# Altium footprint library Chip LED.PcbLib: 25 footprints (part 1 of 2)
Each footprint in its own frame and in the unit in brackets; x right, y up, seen from the top. Pads: shape width x height; smd on the part's side, far side on the other; paste and mask are expansions set on the pad; w line width, h text height; cw(c..) or ccw(c..) is an arc to the next point about the centre after c.
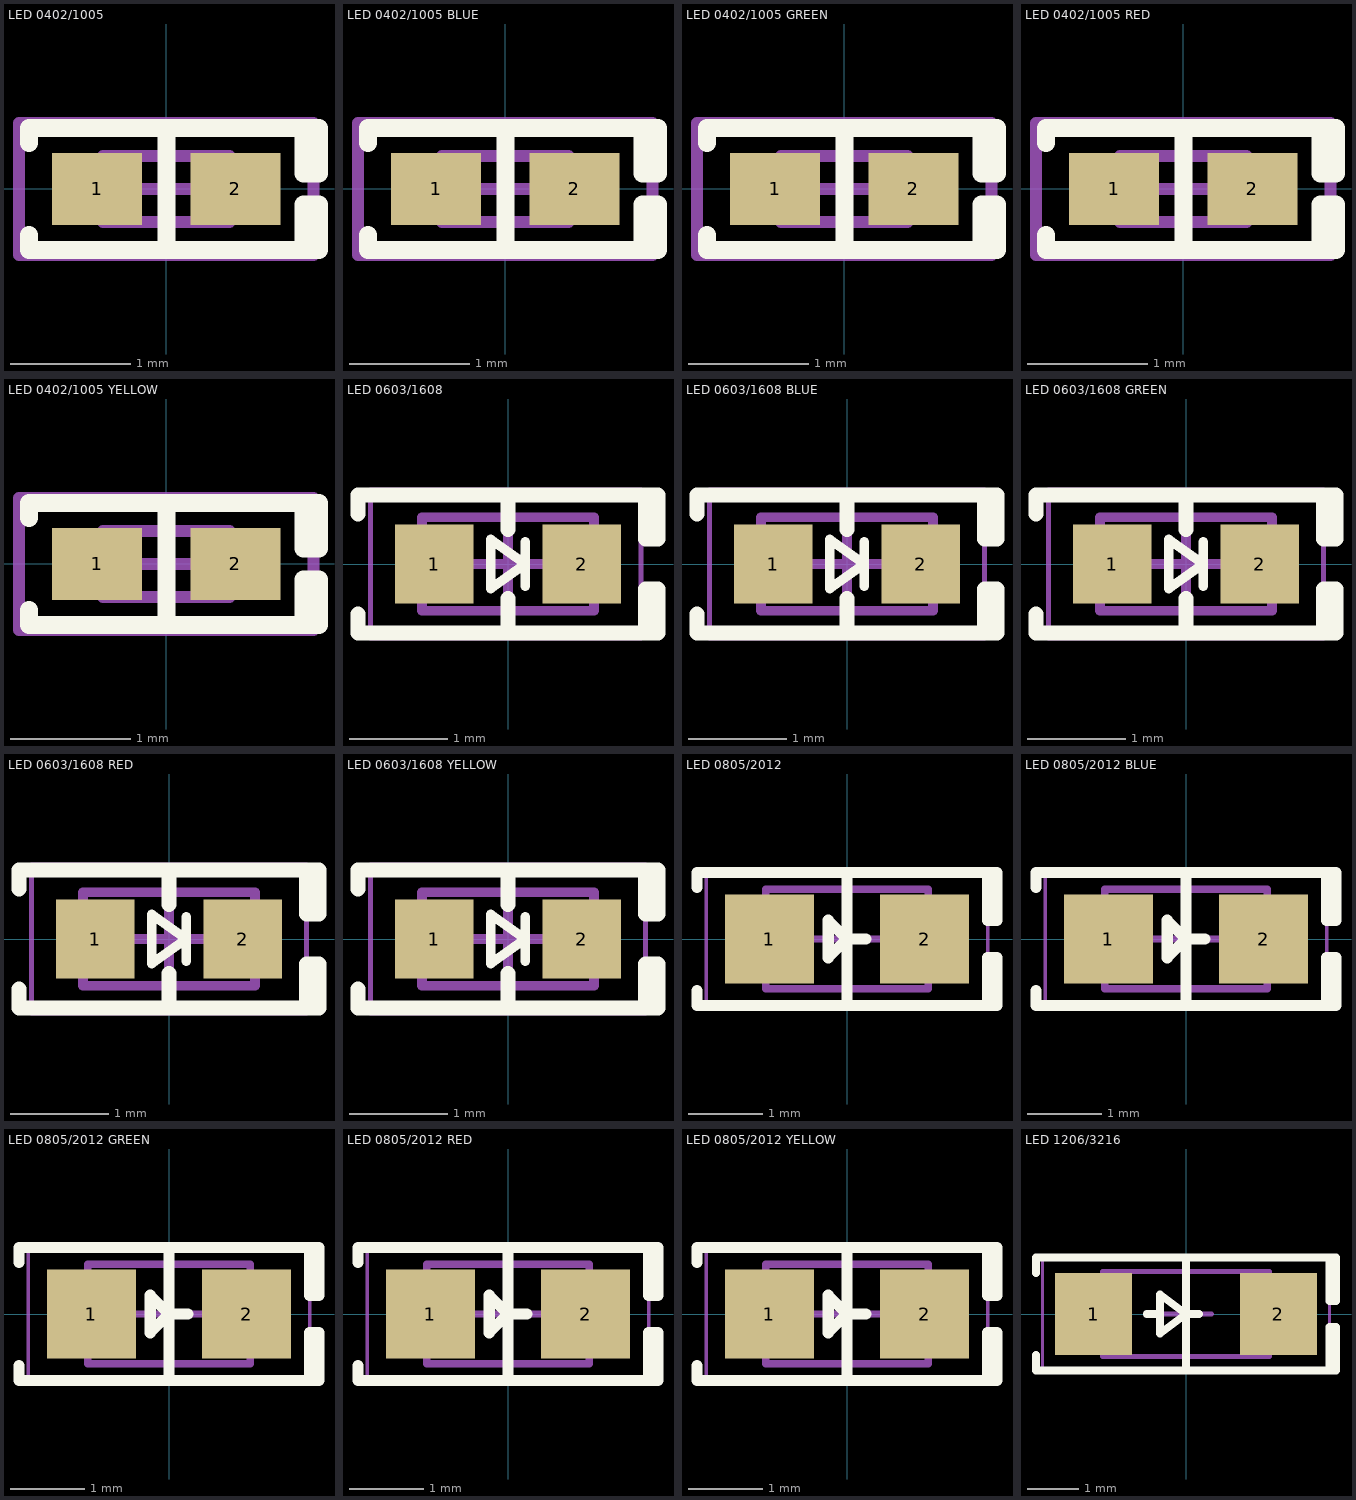
[diagram p0: the footprints below, top view; thin cyan lines are the x and y axes]

## LED 0402/1005 [mm] "Chip Diode, 2-Leads, Body 1.00x0.50mm, IPC Medium Density"
height 0.25
pads (2):
  rect 0.75x0.6 smd: 1(-0.575,0) 2(0.575,0)
Top Overlay:
  lines w0.15: -1.143,-0.381 -1.143,-0.508 1.143,-0.508 ; -1.143,0.381 -1.143,0.508 1.143,0.508 ; 0,-0.508 0,0.508 ; 1.143,-0.508 1.27,-0.508 1.27,-0.127 1.143,-0.127 1.143,-0.508 ; 1.143,0.508 1.27,0.508 1.27,0.127 1.143,0.127 1.143,0.508
Mechanical 13:
  lines w0.1: -0.525,-0.275 -0.525,0.275 0.525,0.275 0.525,-0.275 -0.525,-0.275
Mechanical 15:
  lines w0.1: -0.275,0 0.275,0 ; 0,-0.275 0,0.275 ; -1.225,-0.55 -1.225,0.55 1.225,0.55 1.225,-0.55 -1.225,-0.55
3D body "LED 0402 Lens WHITE.STEP": height 0.21, standoff 0.08, extent -0.35,-0.25 0.35,0.25
3D body "LED 0402 Base WHITE.STEP": height 0.1, standoff 0, extent -0.5,-0.25 0.5,0.25

## LED 0402/1005 BLUE [mm] "Chip Diode, 2-Leads, Body 1.00x0.50mm, IPC Medium Density"
height 0.25
pads (2):
  rect 0.75x0.6 smd: 1(-0.575,0) 2(0.575,0)
Top Overlay:
  lines w0.15: -1.143,-0.381 -1.143,-0.508 1.143,-0.508 ; -1.143,0.381 -1.143,0.508 1.143,0.508 ; 0,-0.508 0,0.508 ; 1.143,-0.508 1.27,-0.508 1.27,-0.127 1.143,-0.127 1.143,-0.508 ; 1.143,0.508 1.27,0.508 1.27,0.127 1.143,0.127 1.143,0.508
Mechanical 13:
  lines w0.1: -0.525,-0.275 -0.525,0.275 0.525,0.275 0.525,-0.275 -0.525,-0.275
Mechanical 15:
  lines w0.1: -0.275,0 0.275,0 ; 0,-0.275 0,0.275 ; -1.225,-0.55 -1.225,0.55 1.225,0.55 1.225,-0.55 -1.225,-0.55
3D body "LED 0402 Lens BLUE.STEP": height 0.21, standoff 0.08, extent -0.35,-0.25 0.35,0.25
3D body "LED 0402 Base BLUE.STEP": height 0.1, standoff 0, extent -0.5,-0.25 0.5,0.25

## LED 0402/1005 GREEN [mm] "Chip Diode, 2-Leads, Body 1.00x0.50mm, IPC Medium Density"
height 0.25
pads (2):
  rect 0.75x0.6 smd: 1(-0.575,0) 2(0.575,0)
Top Overlay:
  lines w0.15: -1.143,-0.381 -1.143,-0.508 1.143,-0.508 ; -1.143,0.381 -1.143,0.508 1.143,0.508 ; 0,-0.508 0,0.508 ; 1.143,-0.508 1.143,-0.127 1.27,-0.127 1.27,-0.508 1.143,-0.508 ; 1.143,0.508 1.143,0.127 1.27,0.127 1.27,0.508 1.143,0.508
Mechanical 13:
  lines w0.1: -0.525,-0.275 0.525,-0.275 0.525,0.275 -0.525,0.275 -0.525,-0.275
Mechanical 15:
  lines w0.1: -0.275,0 0.275,0 ; 0,-0.275 0,0.275 ; -1.225,-0.55 1.225,-0.55 1.225,0.55 -1.225,0.55 -1.225,-0.55
3D body "LED 0402 Base GREEN.STEP": height 0.1, standoff 0, extent -0.5,-0.25 0.5,0.25
3D body "LED 0402 Lens GREEN.STEP": height 0.21, standoff 0.08, extent -0.35,-0.25 0.35,0.25

## LED 0402/1005 RED [mm] "Chip Diode, 2-Leads, Body 1.00x0.50mm, IPC Medium Density"
height 0.25
pads (2):
  rect 0.75x0.6 smd: 1(-0.575,0) 2(0.575,0)
Top Overlay:
  lines w0.15: -1.143,-0.381 -1.143,-0.508 1.143,-0.508 ; -1.143,0.381 -1.143,0.508 1.143,0.508 ; 0,-0.508 0,0.508 ; 1.143,-0.508 1.143,-0.127 1.27,-0.127 1.27,-0.508 1.143,-0.508 ; 1.143,0.508 1.143,0.127 1.27,0.127 1.27,0.508 1.143,0.508
Mechanical 13:
  lines w0.1: -0.525,-0.275 0.525,-0.275 0.525,0.275 -0.525,0.275 -0.525,-0.275
Mechanical 15:
  lines w0.1: -0.275,0 0.275,0 ; 0,-0.275 0,0.275 ; -1.225,-0.55 1.225,-0.55 1.225,0.55 -1.225,0.55 -1.225,-0.55
3D body "LED 0402 Base RED.STEP": height 0.1, standoff 0, extent -0.5,-0.25 0.5,0.25
3D body "LED 0402 Lens RED.STEP": height 0.21, standoff 0.08, extent -0.35,-0.25 0.35,0.25

## LED 0402/1005 YELLOW [mm] "Chip Diode, 2-Leads, Body 1.00x0.50mm, IPC Medium Density"
height 0.25
pads (2):
  rect 0.75x0.6 smd: 1(-0.575,0) 2(0.575,0)
Top Overlay:
  lines w0.15: -1.143,-0.381 -1.143,-0.508 1.143,-0.508 ; -1.143,0.381 -1.143,0.508 1.143,0.508 ; 0,-0.508 0,0.508 ; 1.143,-0.508 1.27,-0.508 1.27,-0.127 1.143,-0.127 1.143,-0.508 ; 1.143,0.508 1.27,0.508 1.27,0.127 1.143,0.127 1.143,0.508
Mechanical 13:
  lines w0.1: -0.525,-0.275 -0.525,0.275 0.525,0.275 0.525,-0.275 -0.525,-0.275
Mechanical 15:
  lines w0.1: -0.275,0 0.275,0 ; 0,-0.275 0,0.275 ; -1.225,-0.55 -1.225,0.55 1.225,0.55 1.225,-0.55 -1.225,-0.55
3D body "LED 0402 Lens YELLOW.STEP": height 0.21, standoff 0.08, extent -0.35,-0.25 0.35,0.25
3D body "LED 0402 Base YELLOW.STEP": height 0.1, standoff 0, extent -0.5,-0.25 0.5,0.25

## LED 0603/1608 [mm] "Chip Diode, 2-Leads, Body 1.60x0.80mm, IPC Medium Density"
height 0.45
pads (2):
  rect 0.8x0.8 smd: 1(-0.75,0) 2(0.75,0)
Top Overlay:
  lines w0.1: 0.175,-0.225 0.175,0 ; 0.175,0.225 0.175,0 ; 0.175,0 -0.175,-0.25 -0.175,0 -0.175,0.25 0.175,0
  lines w0.15: -1.524,-0.508 -1.524,-0.7 1.5,-0.7 ; -1.524,0.508 -1.524,0.7 1.5,0.7 ; 0,-0.7 0,-0.35 ; 0,0.35 0,0.7 ; 1.397,-0.7 1.397,-0.254 1.524,-0.254 1.524,-0.7 1.397,-0.7 ; 1.397,0.254 1.397,0.7 1.524,0.7 1.524,0.254 1.397,0.254
Mechanical 13:
  lines w0.1: -0.875,-0.475 0.875,-0.475 0.875,0.475 -0.875,0.475 -0.875,-0.475
Mechanical 15:
  lines w0.05: -1.397,-0.75 1.35,-0.75 1.35,0.75 -1.397,0.75 -1.397,-0.75
  lines w0.1: -0.475,0 0.475,0 ; 0,-0.475 0,0.475
3D body "LED 0603 Base WHITE.STEP": height 0.28, standoff 0, extent -0.8,-0.4 0.8,0.4
3D body "LED 0603 Lens WHITE.STEP": height 0.53, standoff 0.18, extent -0.55,-0.4 0.55,0.4

## LED 0603/1608 BLUE [mm] "Chip Diode, 2-Leads, Body 1.60x0.80mm, IPC Medium Density"
height 0.45
pads (2):
  rect 0.8x0.8 smd: 1(-0.75,0) 2(0.75,0)
Top Overlay:
  lines w0.1: 0.175,-0.225 0.175,0 ; 0.175,0.225 0.175,0 ; 0.175,0 -0.175,-0.25 -0.175,0 -0.175,0.25 0.175,0
  lines w0.15: -1.524,-0.508 -1.524,-0.7 1.5,-0.7 ; -1.524,0.508 -1.524,0.7 1.5,0.7 ; 0,-0.7 0,-0.35 ; 0,0.35 0,0.7 ; 1.397,-0.7 1.397,-0.254 1.524,-0.254 1.524,-0.7 1.397,-0.7 ; 1.397,0.254 1.397,0.7 1.524,0.7 1.524,0.254 1.397,0.254
Mechanical 13:
  lines w0.1: -0.875,-0.475 0.875,-0.475 0.875,0.475 -0.875,0.475 -0.875,-0.475
Mechanical 15:
  lines w0.05: -1.397,-0.75 1.397,-0.75 1.397,0.75 -1.397,0.75 -1.397,-0.75
  lines w0.1: -0.475,0 0.475,0 ; 0,-0.475 0,0.475
3D body "LED 0603 Base BLUE.STEP": height 0.28, standoff 0, extent -0.8,-0.4 0.8,0.4
3D body "LED 0603 Lens BLUE.STEP": height 0.53, standoff 0.18, extent -0.55,-0.4 0.55,0.4

## LED 0603/1608 GREEN [mm] "Chip Diode, 2-Leads, Body 1.60x0.80mm, IPC Medium Density"
height 0.45
pads (2):
  rect 0.8x0.8 smd: 1(-0.75,0) 2(0.75,0)
Top Overlay:
  lines w0.1: 0.175,-0.225 0.175,0 ; 0.175,0.225 0.175,0 ; 0.175,0 -0.175,-0.25 -0.175,0 -0.175,0.25 0.175,0
  lines w0.15: -1.524,-0.508 -1.524,-0.7 1.5,-0.7 ; -1.524,0.508 -1.524,0.7 1.5,0.7 ; 0,-0.7 0,-0.35 ; 0,0.35 0,0.7 ; 1.397,-0.7 1.524,-0.7 1.524,-0.254 1.397,-0.254 1.397,-0.7 ; 1.397,0.254 1.524,0.254 1.524,0.7 1.397,0.7 1.397,0.254
Mechanical 13:
  lines w0.1: -0.875,-0.475 -0.875,0.475 0.875,0.475 0.875,-0.475 -0.875,-0.475
Mechanical 15:
  lines w0.05: -1.397,-0.75 -1.397,0.75 1.397,0.75 1.397,-0.75 -1.397,-0.75
  lines w0.1: -0.475,0 0.475,0 ; 0,-0.475 0,0.475
3D body "LED 0603 Lens GREEN.STEP": height 0.53, standoff 0.18, extent -0.55,-0.4 0.55,0.4
3D body "LED 0603 Base GREEN.STEP": height 0.28, standoff 0, extent -0.8,-0.4 0.8,0.4

## LED 0603/1608 RED [mm] "Chip Diode, 2-Leads, Body 1.60x0.80mm, IPC Medium Density"
height 0.45
pads (2):
  rect 0.8x0.8 smd: 1(-0.75,0) 2(0.75,0)
Top Overlay:
  lines w0.1: 0.175,-0.225 0.175,0 ; 0.175,0.225 0.175,0 ; 0.175,0 -0.175,-0.25 -0.175,0 -0.175,0.25 0.175,0
  lines w0.15: -1.524,-0.508 -1.524,-0.7 1.5,-0.7 ; -1.524,0.508 -1.524,0.7 1.5,0.7 ; 0,-0.7 0,-0.35 ; 0,0.35 0,0.7 ; 1.397,-0.7 1.397,-0.254 1.524,-0.254 1.524,-0.7 1.397,-0.7 ; 1.397,0.254 1.397,0.7 1.524,0.7 1.524,0.254 1.397,0.254
Mechanical 13:
  lines w0.1: -0.875,-0.475 0.875,-0.475 0.875,0.475 -0.875,0.475 -0.875,-0.475
Mechanical 15:
  lines w0.05: -1.397,-0.75 1.397,-0.75 1.397,0.75 -1.397,0.75 -1.397,-0.75
  lines w0.1: -0.475,0 0.475,0 ; 0,-0.475 0,0.475
3D body "LED 0603 Base RED.STEP": height 0.28, standoff 0, extent -0.8,-0.4 0.8,0.4
3D body "LED 0603 Lens RED.STEP": height 0.53, standoff 0.18, extent -0.55,-0.4 0.55,0.4

## LED 0603/1608 YELLOW [mm] "Chip Diode, 2-Leads, Body 1.60x0.80mm, IPC Medium Density"
height 0.45
pads (2):
  rect 0.8x0.8 smd: 1(-0.75,0) 2(0.75,0)
Top Overlay:
  lines w0.1: 0.175,-0.225 0.175,0 ; 0.175,0.225 0.175,0 ; 0.175,0 -0.175,0.25 -0.175,0 -0.175,-0.25 0.175,0
  lines w0.15: -1.524,-0.508 -1.524,-0.7 1.4,-0.7 ; -1.524,0.508 -1.524,0.7 1.5,0.7 ; 0,-0.7 0,-0.35 ; 0,0.35 0,0.7 ; 1.397,-0.7 1.524,-0.7 1.524,-0.254 1.397,-0.254 1.397,-0.7 ; 1.397,0.254 1.524,0.254 1.524,0.7 1.397,0.7 1.397,0.254
Mechanical 13:
  lines w0.1: -0.875,-0.475 -0.875,0.475 0.875,0.475 0.875,-0.475 -0.875,-0.475
Mechanical 15:
  lines w0.05: -1.397,-0.75 -1.397,0.75 1.397,0.75 1.397,-0.75 -1.397,-0.75
  lines w0.1: -0.475,0 0.475,0 ; 0,-0.475 0,0.475
3D body "LED 0603 Lens YELLOW.STEP": height 0.53, standoff 0.18, extent -0.55,-0.4 0.55,0.4
3D body "LED 0603 Base YELLOW.STEP": height 0.28, standoff 0, extent -0.8,-0.4 0.8,0.4

## LED 0805/2012 [mm] "Chip Diode, 2-Leads, Body 2.00x1.25mm, IPC Medium Density"
height 0.7
pads (2):
  rect 1.2x1.2 smd: 1(-1.05,0) 2(1.05,0)
Top Overlay:
  lines w0.15: -2.032,-0.7 -2.032,-0.9 1.905,-0.9 ; -2.032,0.7 -2.032,0.9 1.905,0.9 ; 0,-0.9 0,0.9 ; 0.254,0 0,0 ; 0,0 -0.254,0.254 -0.254,-0.254 0,0 ; 1.905,-0.9 2.032,-0.9 2.032,-0.254 1.905,-0.254 1.905,-0.9 ; 1.905,0.9 2.032,0.9 2.032,0.254 1.905,0.254 1.905,0.9
Mechanical 13:
  lines w0.1: -1.1,-0.675 -1.1,0.675 1.1,0.675 1.1,-0.675 -1.1,-0.675
Mechanical 15:
  lines w0.05: -1.905,-0.95 -1.905,0.95 1.905,0.95 1.905,-0.95 -1.905,-0.95
  lines w0.1: -0.5,0 0.5,0 ; 0,-0.5 0,0.5
3D body "LED 0805 Lens WHITE.STEP": height 0.9, standoff 0.3, extent -0.65,-0.625 0.65,0.625
3D body "LED 0805 Base WHITE.STEP": height 0.4, standoff 0, extent -1,-0.625 1,0.625

## LED 0805/2012 BLUE [mm] "Chip Diode, 2-Leads, Body 2.00x1.25mm, IPC Medium Density"
height 0.7
pads (2):
  rect 1.2x1.2 smd: 1(-1.05,0) 2(1.05,0)
Top Overlay:
  lines w0.15: -2.032,-0.7 -2.032,-0.9 1.905,-0.9 ; -2.032,0.7 -2.032,0.9 1.905,0.9 ; 0,-0.9 0,0.9 ; 0.254,0 0,0 ; 0,0 -0.254,-0.254 -0.254,0.254 0,0 ; 1.905,-0.9 1.905,-0.254 2.032,-0.254 2.032,-0.9 1.905,-0.9 ; 1.905,0.9 1.905,0.254 2.032,0.254 2.032,0.9 1.905,0.9
Mechanical 13:
  lines w0.1: -1.1,-0.675 1.1,-0.675 1.1,0.675 -1.1,0.675 -1.1,-0.675
Mechanical 15:
  lines w0.05: -1.905,-0.95 1.905,-0.95 1.905,0.95 -1.905,0.95 -1.905,-0.95
  lines w0.1: -0.5,0 0.5,0 ; 0,-0.5 0,0.5
3D body "LED 0805 Base BLUE.STEP": height 0.4, standoff 0, extent -1,-0.625 1,0.625
3D body "LED 0805 Lens BLUE.STEP": height 0.9, standoff 0.3, extent -0.65,-0.625 0.65,0.625

## LED 0805/2012 GREEN [mm] "Chip Diode, 2-Leads, Body 2.00x1.25mm, IPC Medium Density"
height 0.7
pads (2):
  rect 1.2x1.2 smd: 1(-1.05,0) 2(1.05,0)
Top Overlay:
  lines w0.15: -2.032,-0.7 -2.032,-0.9 1.905,-0.9 ; -2.032,0.7 -2.032,0.9 1.905,0.9 ; 0,-0.9 0,0.9 ; 0.254,0 0,0 ; 0,0 -0.254,0.254 -0.254,-0.254 0,0 ; 1.905,-0.9 1.905,-0.254 2.032,-0.254 2.032,-0.9 1.905,-0.9 ; 1.905,0.9 1.905,0.254 2.032,0.254 2.032,0.9 1.905,0.9
Mechanical 13:
  lines w0.1: -1.1,-0.675 1.1,-0.675 1.1,0.675 -1.1,0.675 -1.1,-0.675
Mechanical 15:
  lines w0.05: -1.905,-0.95 1.905,-0.95 1.905,0.95 -1.905,0.95 -1.905,-0.95
  lines w0.1: -0.5,0 0.5,0 ; 0,-0.5 0,0.5
3D body "LED 0805 Base GREEN.STEP": height 0.4, standoff 0, extent -1,-0.625 1,0.625
3D body "LED 0805 Lens GREEN.STEP": height 0.9, standoff 0.3, extent -0.65,-0.625 0.65,0.625

## LED 0805/2012 RED [mm] "Chip Diode, 2-Leads, Body 2.00x1.25mm, IPC Medium Density"
height 0.7
pads (2):
  rect 1.2x1.2 smd: 1(-1.05,0) 2(1.05,0)
Top Overlay:
  lines w0.15: -2.032,-0.7 -2.032,-0.9 1.905,-0.9 ; -2.032,0.7 -2.032,0.9 1.905,0.9 ; 0,-0.9 0,0.9 ; 0.254,0 0,0 ; 0,0 -0.254,0.254 -0.254,-0.254 0,0 ; 1.905,-0.9 2.032,-0.9 2.032,-0.254 1.905,-0.254 1.905,-0.9 ; 1.905,0.9 2.032,0.9 2.032,0.254 1.905,0.254 1.905,0.9
Mechanical 13:
  lines w0.1: -1.1,-0.675 -1.1,0.675 1.1,0.675 1.1,-0.675 -1.1,-0.675
Mechanical 15:
  lines w0.05: -1.905,-0.95 -1.905,0.95 1.905,0.95 1.905,-0.95 -1.905,-0.95
  lines w0.1: -0.5,0 0.5,0 ; 0,-0.5 0,0.5
3D body "LED 0805 Lens RED.STEP": height 0.9, standoff 0.3, extent -0.65,-0.625 0.65,0.625
3D body "LED 0805 Base RED.STEP": height 0.4, standoff 0, extent -1,-0.625 1,0.625

## LED 0805/2012 YELLOW [mm] "Chip Diode, 2-Leads, Body 2.00x1.25mm, IPC Medium Density"
height 0.7
pads (2):
  rect 1.2x1.2 smd: 1(-1.05,0) 2(1.05,0)
Top Overlay:
  lines w0.15: -2.032,-0.7 -2.032,-0.9 1.905,-0.9 ; -2.032,0.7 -2.032,0.9 1.905,0.9 ; 0,-0.9 0,0.9 ; 0.254,0 0,0 ; 0,0 -0.254,0.254 -0.254,-0.254 0,0 ; 1.905,-0.9 1.905,-0.254 2.032,-0.254 2.032,-0.9 1.905,-0.9 ; 1.905,0.9 1.905,0.254 2.032,0.254 2.032,0.9 1.905,0.9
Mechanical 13:
  lines w0.1: -1.1,-0.675 1.1,-0.675 1.1,0.675 -1.1,0.675 -1.1,-0.675
Mechanical 15:
  lines w0.05: -1.905,-0.95 1.905,-0.95 1.905,0.95 -1.905,0.95 -1.905,-0.95
  lines w0.1: -0.5,0 0.5,0 ; 0,-0.5 0,0.5
3D body "LED 0805 Base YELLOW.STEP": height 0.4, standoff 0, extent -1,-0.625 1,0.625
3D body "LED 0805 Lens YELLOW.STEP": height 0.9, standoff 0.3, extent -0.65,-0.625 0.65,0.625

## LED 1206/3216 [mm] "Chip Diode, 2-Leads, Body 3.13x1.55mm, IPC Medium Density"
height 0.7
pads (2):
  rect 1.5x1.6 smd: 1(-1.8,0) 2(1.8,0)
Top Overlay:
  lines w0.15: -2.921,-0.8 -2.921,-1.1 2.794,-1.1 ; -2.921,0.8 -2.921,1.1 2.794,1.1 ; -0.762,0 -0.508,0 ; 0,-1.1 0,1.1 ; 0.254,0 0,0 ; 0,0 -0.508,-0.381 -0.508,0.381 0,0 ; 2.794,-1.1 2.921,-1.1 2.921,-0.254 2.794,-0.254 2.794,-1.1 ; 2.794,1.1 2.921,1.1 2.921,0.254 2.794,0.254 2.794,1.1
Mechanical 13:
  lines w0.1: -1.625,-0.825 1.625,-0.825 1.625,0.825 -1.625,0.825 -1.625,-0.825
Mechanical 15:
  lines w0.05: -2.794,-1.1 2.794,-1.1 2.794,1.1 -2.794,1.1 -2.794,-1.1
  lines w0.1: -0.5,0 0.5,0 ; 0,-0.5 0,0.5
3D body "LED 1206 Lens WHITE.STEP": height 0.9, standoff 0.3, extent -0.75,-0.8 0.75,0.8
3D body "LED 1206 Base WHITE.STEP": height 0.4, standoff 0, extent -1.6,-0.8 1.6,0.8